# Altium schematic symbol library Logo.SchLib: 2 symbols
Pins are listed as number, name and electrical type; pins without a type are passive.

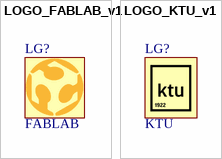
[diagram p0: symbols LOGO_FABLAB_v1 to LOGO_KTU_v1]

## LOGO_FABLAB_v1
designator LG?, comment FABLAB  (no BOM)
FABLAB logo size 17mm x 17mm
footprint LOGO_FABLAB

## LOGO_KTU_v1
designator LG?, comment KTU  (no BOM)
KTU logo size 21.15mm x  24.05mm
footprint LOGO_KTU_21.15x24.05